# EAGLE library part SP232 (library Signetics)
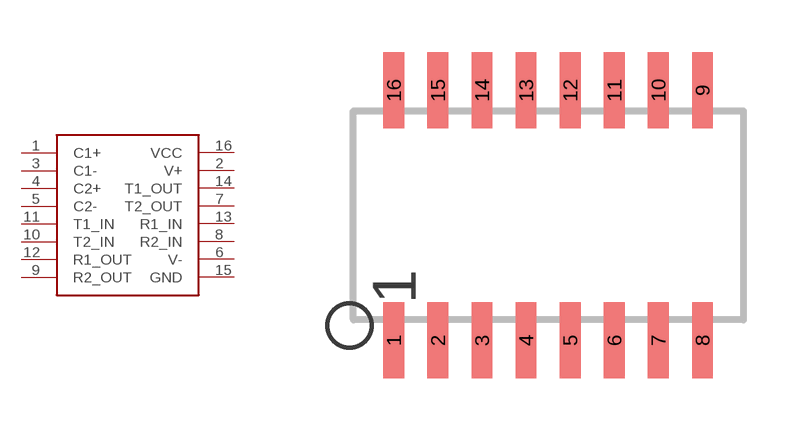
[diagram p6: symbol with the pads of SOP16; footprint SOP16]

Designator prefix -

## SP232  [SOP16]
1  C1+
2  V+
3  C1-
4  C2+
5  C2-
6  V-
7  T2_OUT
8  R2_IN
9  R2_OUT
10  T2_IN
11  T1_IN
12  R1_OUT
13  R1_IN
14  T1_OUT
15  GND
16  VCC

## Footprint SOP16 (pad centres in mm)
SMALL OUTLINE PACKAGE
smd 0.6 x 2.2: 1 -4.445,-3.6; 2 -3.175,-3.6; 3 -1.905,-3.6; 4 -0.635,-3.6; 5 0.635,-3.6; 6 1.905,-3.6; 7 3.175,-3.6; 8 4.445,-3.6; 9 4.445,3.6; 10 3.175,3.6; 11 1.905,3.6; 12 0.635,3.6; 13 -0.635,3.6; 14 -1.905,3.6; 15 -3.175,3.6; 16 -4.445,3.6